# Altium schematic symbol library 6-146130-4.SchLib: 2 symbols
Pins are listed as number, name and electrical type; pins without a type are passive.

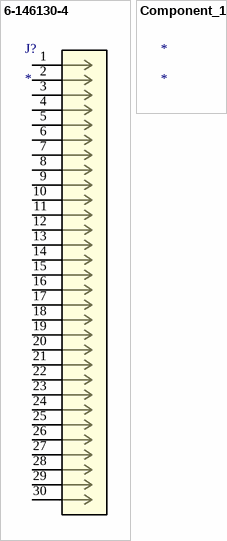
[diagram p0: symbols 6-146130-4 to Component_1]

## 6-146130-4
designator J?
No Description Available; Mfr_Name: TE Connectivity; RefDes: RefDes; Type: Type; Supplier 1: Digikey; Supplier Part Number 1: A107239-ND
footprint CONN_6-146130-4_TYCO
pins: 1, 2, 3, 4, 5, 6, 7, 8, 9, 10, 11, 12, 13, 14, 15, 16, 17, 18, 19, 20, 21, 22, 23, 24, 25, 26, 27, 28, 29, 30

## Component_1
designator *